# EAGLE library part 691403900005 (library Wurth_Elektronik_Electromechanic_Terminal_Blocks_Connectors_rev15c)
WR-TBL Terminal block - serie 4039 2,54mm - Spring clamp/Screwless - Vertical wire entry - 05p Code:Con_TBL_Screwless_2.54_6914039000xxB_691403900005 <http://katalog.we-online.de/media/images/eican/Con_TBL_Screwless_2.54_6914039000xxB_pf2.jpg> Details see: http://katalog.we-online.de/en/em/691_403_900_0xxB/691_403_900_005B?m Created 2014-12-22, aslant tao 2014 (C) Würth Elektronik
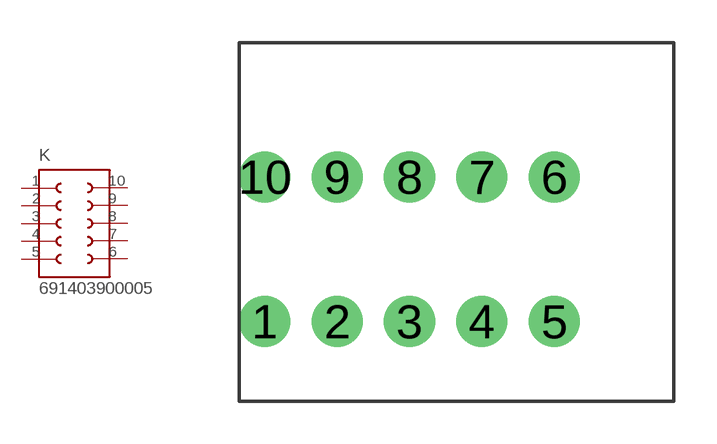
[diagram p210: symbol with the pads of 691403900005; footprint 691403900005]

Designator prefix K

## 691403900005  [691403900005]
1  1  pas
2  2  pas
3  3  pas
4  4  pas
5  5  pas
6  6  pas
7  7  pas
8  8  pas
9  9  pas
10  10  pas

## Footprint 691403900005 (pad centres in mm)
WR-TBL Serie 4039 - 2.54mm Screwless Vertical Entry - 0.5mm2 Wires, 5 Pins
drill 1.2: 1 -2.54,0; 2 0,0; 3 2.54,0; 4 5.08,0; 5 7.62,0; 6 7.62,5.08; 7 5.08,5.08; 8 2.54,5.08; 9 0,5.08; 10 -2.54,5.08